# Altium schematic symbol library OPA615ID.SchLib: 1 symbol
Pins are listed as number, name and electrical type; pins without a type are passive.

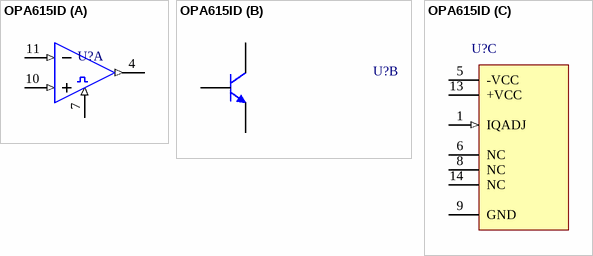
[diagram p0: symbol OPA615ID]

## OPA615ID
designator U?
part A pins: 4 CHOLD (out), 7 HOLD (in), 10 S/H_P (in), 11 S/H_N (in)
part B pins: 2 E, 3 B, 12 IOUT/C
part C pins: 1 IQADJ (in), 5 -VCC (power), 6 NC, 8 NC, 9 GND (power), 13 +VCC (power), 14 NC